# Altium schematic symbol library SCH - MCU - STM32 - ST MICROELECTRONICS STM32F078RBHX UFBGA64.SchLib: 1 symbol
Pins are listed as number, name and electrical type; pins without a type are passive.

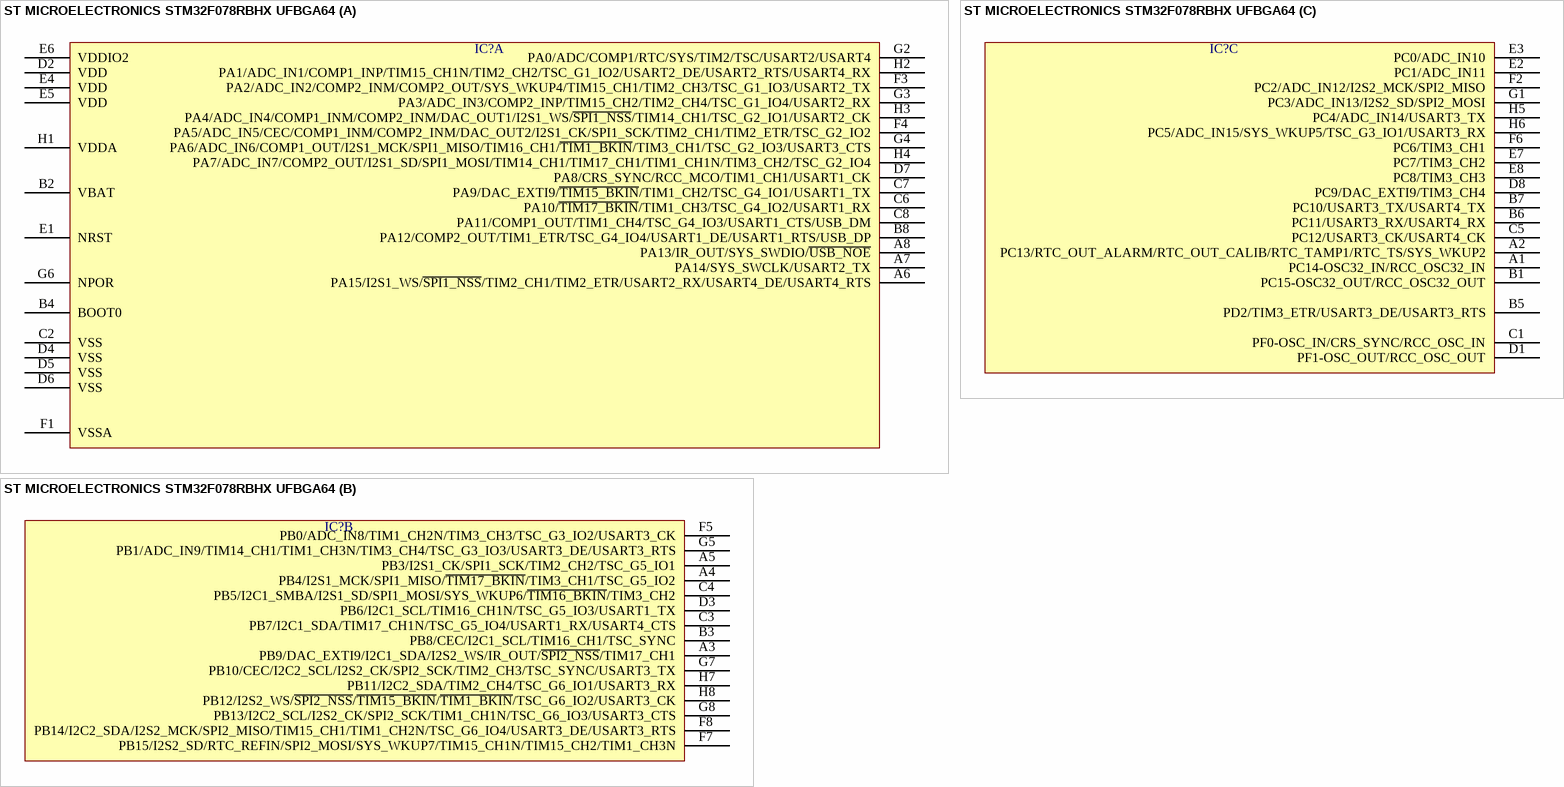
[diagram p0: symbol ST MICROELECTRONICS STM32F078RBHX UFBGA64]

## ST MICROELECTRONICS STM32F078RBHX UFBGA64
designator IC?  (value not drawn)
part A pins: A6 PA15/I2S1_WS/~{SPI1_NSS}/TIM2_CH1/TIM2_ETR/USART2_RX/USART4_DE/USART4_RTS, A7 PA14/SYS_SWCLK/USART2_TX, A8 PA13/IR_OUT/SYS_SWDIO/~{USB_NOE}, B2 VBAT, B4 BOOT0, B8 PA12/COMP2_OUT/TIM1_ETR/TSC_G4_IO4/USART1_DE/USART1_RTS/USB_DP, C2 VSS, C6 PA10/~{TIM17_BKIN}/TIM1_CH3/TSC_G4_IO2/USART1_RX, C7 PA9/DAC_EXTI9/~{TIM15_BKIN}/TIM1_CH2/TSC_G4_IO1/USART1_TX, C8 PA11/COMP1_OUT/TIM1_CH4/TSC_G4_IO3/USART1_CTS/USB_DM, D2 VDD, D4 VSS, D5 VSS, D6 VSS, D7 PA8/CRS_SYNC/RCC_MCO/TIM1_CH1/USART1_CK, E1 NRST, E4 VDD, E5 VDD, E6 VDDIO2, F1 VSSA, F3 PA2/ADC_IN2/COMP2_INM/COMP2_OUT/SYS_WKUP4/TIM15_CH1/TIM2_CH3/TSC_G1_IO3/USART2_TX, F4 PA5/ADC_IN5/CEC/COMP1_INM/COMP2_INM/DAC_OUT2/I2S1_CK/SPI1_SCK/TIM2_CH1/TIM2_ETR/TSC_G2_IO2, G2 PA0/ADC/COMP1/RTC/SYS/TIM2/TSC/USART2/USART4, G3 PA3/ADC_IN3/COMP2_INP/TIM15_CH2/TIM2_CH4/TSC_G1_IO4/USART2_RX, G4 PA6/ADC_IN6/COMP1_OUT/I2S1_MCK/SPI1_MISO/TIM16_CH1/~{TIM1_BKIN}/TIM3_CH1/TSC_G2_IO3/USART3_CTS, G6 NPOR, H1 VDDA, H2 PA1/ADC_IN1/COMP1_INP/TIM15_CH1N/TIM2_CH2/TSC_G1_IO2/USART2_DE/USART2_RTS/USART4_RX, H3 PA4/ADC_IN4/COMP1_INM/COMP2_INM/DAC_OUT1/I2S1_WS/~{SPI1_NSS}/TIM14_CH1/TSC_G2_IO1/USART2_CK, H4 PA7/ADC_IN7/COMP2_OUT/I2S1_SD/SPI1_MOSI/TIM14_CH1/TIM17_CH1/TIM1_CH1N/TIM3_CH2/TSC_G2_IO4
part B pins: A3 PB9/DAC_EXTI9/I2C1_SDA/I2S2_WS/IR_OUT/~{SPI2_NSS}/TIM17_CH1, A4 PB4/I2S1_MCK/SPI1_MISO/~{TIM17_BKIN}/TIM3_CH1/TSC_G5_IO2, A5 PB3/I2S1_CK/SPI1_SCK/TIM2_CH2/TSC_G5_IO1, B3 PB8/CEC/I2C1_SCL/TIM16_CH1/TSC_SYNC, C3 PB7/I2C1_SDA/TIM17_CH1N/TSC_G5_IO4/USART1_RX/USART4_CTS, C4 PB5/I2C1_SMBA/I2S1_SD/SPI1_MOSI/SYS_WKUP6/~{TIM16_BKIN}/TIM3_CH2, D3 PB6/I2C1_SCL/TIM16_CH1N/TSC_G5_IO3/USART1_TX, F5 PB0/ADC_IN8/TIM1_CH2N/TIM3_CH3/TSC_G3_IO2/USART3_CK, F7 PB15/I2S2_SD/RTC_REFIN/SPI2_MOSI/SYS_WKUP7/TIM15_CH1N/TIM15_CH2/TIM1_CH3N, F8 PB14/I2C2_SDA/I2S2_MCK/SPI2_MISO/TIM15_CH1/TIM1_CH2N/TSC_G6_IO4/USART3_DE/USART3_RTS, G5 PB1/ADC_IN9/TIM14_CH1/TIM1_CH3N/TIM3_CH4/TSC_G3_IO3/USART3_DE/USART3_RTS, G7 PB10/CEC/I2C2_SCL/I2S2_CK/SPI2_SCK/TIM2_CH3/TSC_SYNC/USART3_TX, G8 PB13/I2C2_SCL/I2S2_CK/SPI2_SCK/TIM1_CH1N/TSC_G6_IO3/USART3_CTS, H7 PB11/I2C2_SDA/TIM2_CH4/TSC_G6_IO1/USART3_RX, H8 PB12/I2S2_WS/~{SPI2_NSS}/~{TIM15_BKIN}/~{TIM1_BKIN}/TSC_G6_IO2/USART3_CK
part C pins: A1 PC14-OSC32_IN/RCC_OSC32_IN, A2 PC13/RTC_OUT_ALARM/RTC_OUT_CALIB/RTC_TAMP1/RTC_TS/SYS_WKUP2, B1 PC15-OSC32_OUT/RCC_OSC32_OUT, B5 PD2/TIM3_ETR/USART3_DE/USART3_RTS, B6 PC11/USART3_RX/USART4_RX, B7 PC10/USART3_TX/USART4_TX, C1 PF0-OSC_IN/CRS_SYNC/RCC_OSC_IN, C5 PC12/USART3_CK/USART4_CK, D1 PF1-OSC_OUT/RCC_OSC_OUT, D8 PC9/DAC_EXTI9/TIM3_CH4, E2 PC1/ADC_IN11, E3 PC0/ADC_IN10, E7 PC7/TIM3_CH2, E8 PC8/TIM3_CH3, F2 PC2/ADC_IN12/I2S2_MCK/SPI2_MISO, F6 PC6/TIM3_CH1, G1 PC3/ADC_IN13/I2S2_SD/SPI2_MOSI, H5 PC4/ADC_IN14/USART3_TX, H6 PC5/ADC_IN15/SYS_WKUP5/TSC_G3_IO1/USART3_RX